# EAGLE library part MC34063-DIL (library pokus)
DC/DC converter MC34063 in DIL08.
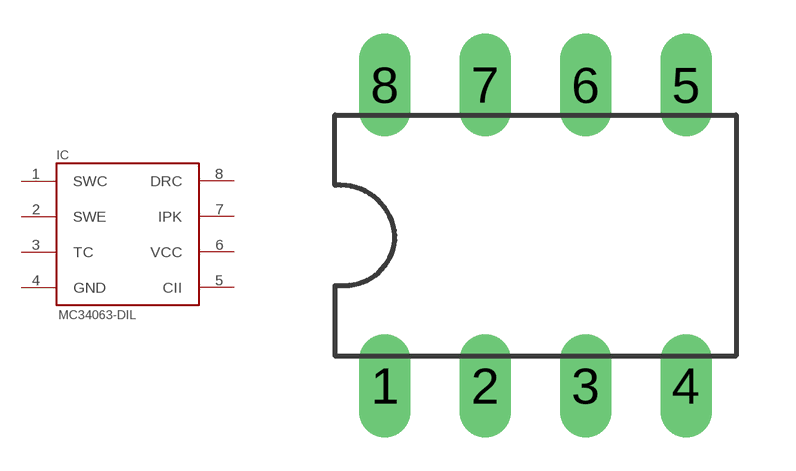
[diagram p0: symbol with the pads of DIL08; footprint DIL08]

Designator prefix IC

## MC34063-DIL  [DIL08]
1  SWC
2  SWE
3  TC
4  GND  pwr
5  CII
6  VCC
7  IPK
8  DRC

## Footprint DIL08 (pad centres in mm)
drill 0.8 long: 1 -3.81,-3.81; 2 -1.27,-3.81; 3 1.27,-3.81; 4 3.81,-3.81; 5 3.81,3.81; 6 1.27,3.81; 7 -1.27,3.81; 8 -3.81,3.81